# EAGLE library part AD5339 (library analog_devices_gaui)
16-Bit DAC with Serial Data Interface
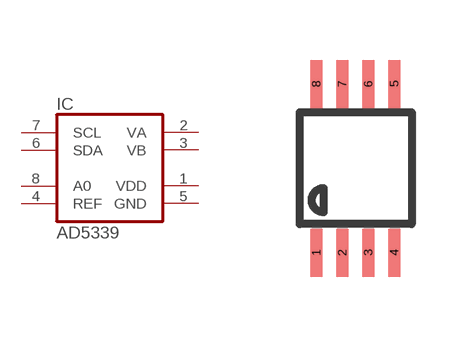
[diagram p2: symbol with the pads of MSOP08; footprint MSOP08]

Designator prefix IC

## AD5339  [MSOP08]
1  VDD  pwr
2  VA  out
3  VB  out
4  REF  in
5  GND  pwr
6  SDA  in
7  SCL  in
8  A0  in

## Footprint MSOP08 (pad centres in mm)
Mini Small Outline Package Grid 0.5mm
smd 0.3 x 1.2: 1 -0.976,-2.113; 2 -0.326,-2.113; 3 0.324,-2.113; 4 0.974,-2.113; 5 0.974,2.112; 6 0.324,2.112; 7 -0.326,2.112; 8 -0.976,2.112